# Altium footprint library KingBright LEDs.PcbLib: 4 footprints
Each footprint in its own frame and in the unit in brackets; x right, y up, seen from the top. Pads: shape width x height; smd on the part's side, far side on the other; paste and mask are expansions set on the pad; w line width, h text height; cw(c..) or ccw(c..) is an arc to the next point about the centre after c.
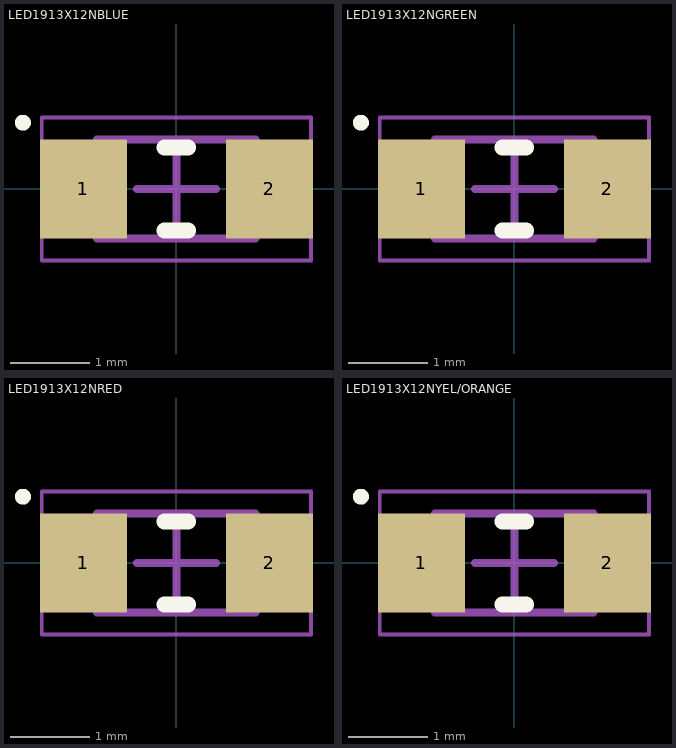
[diagram p0: the footprints below, top view; thin cyan lines are the x and y axes]

## LED1913X12NBLUE [mm] "LED 2-Leads, Body 1.90x1.32mm, IPC Medium Density"
height 1.2
pads (2):
  rect 1.1x1.25 smd: 1(-1.175,0) 2(1.175,0)
Top Overlay:
  circle w0.1: c-1.937,0.837 r0.05
  lines w0.2: -0.15,-0.525 0.15,-0.525 ; -0.15,0.525 0.15,0.525
Mechanical 13:
  lines w0.1: -1,-0.625 -1,0.625 1,0.625 1,-0.625 -1,-0.625
Mechanical 15:
  lines w0.05: -1.7,-0.9 -1.7,0.9 1.7,0.9 1.7,-0.9 -1.7,-0.9
  lines w0.1: -0.5,0 0.5,0 ; 0,-0.5 0,0.5
3D body "User Library-led_0805.step": height 1.1, standoff 0, extent -1.004,-0.625 1.016,0.625

## LED1913X12NGREEN [mm] "LED 2-Leads, Body 1.90x1.32mm, IPC Medium Density"
height 1.2
pads (2):
  rect 1.1x1.25 smd: 1(-1.175,0) 2(1.175,0)
Top Overlay:
  circle w0.1: c-1.937,0.837 r0.05
  lines w0.2: -0.15,-0.525 0.15,-0.525 ; -0.15,0.525 0.15,0.525
Mechanical 13:
  lines w0.1: -1,-0.625 -1,0.625 1,0.625 1,-0.625 -1,-0.625
Mechanical 15:
  lines w0.05: -1.7,-0.9 -1.7,0.9 1.7,0.9 1.7,-0.9 -1.7,-0.9
  lines w0.1: -0.5,0 0.5,0 ; 0,-0.5 0,0.5
3D body "User Library-User Library-led_0805 GRE.step": height 1.1, standoff 0, extent -1.01,-0.625 1.01,0.625

## LED1913X12NRED [mm] "LED 2-Leads, Body 1.90x1.32mm, IPC Medium Density"
height 1.2
pads (2):
  rect 1.1x1.25 smd: 1(-1.175,0) 2(1.175,0)
Top Overlay:
  circle w0.1: c-1.937,0.837 r0.05
  lines w0.2: -0.15,-0.525 0.15,-0.525 ; -0.15,0.525 0.15,0.525
Mechanical 13:
  lines w0.1: -1,-0.625 -1,0.625 1,0.625 1,-0.625 -1,-0.625
Mechanical 15:
  lines w0.05: -1.7,-0.9 -1.7,0.9 1.7,0.9 1.7,-0.9 -1.7,-0.9
  lines w0.1: -0.5,0 0.5,0 ; 0,-0.5 0,0.5
3D body "User Library-LED SMD0805.step": height 0.85, standoff 0.01, extent -1.021,-0.434 1.041,0.472

## LED1913X12NYEL/ORANGE [mm] "LED 2-Leads, Body 1.90x1.32mm, IPC Medium Density"
height 1.2
pads (2):
  rect 1.1x1.25 smd: 1(-1.175,0) 2(1.175,0)
Top Overlay:
  circle w0.1: c-1.937,0.837 r0.05
  lines w0.2: -0.15,-0.525 0.15,-0.525 ; -0.15,0.525 0.15,0.525
Mechanical 13:
  lines w0.1: -1,-0.625 -1,0.625 1,0.625 1,-0.625 -1,-0.625
Mechanical 15:
  lines w0.05: -1.7,-0.9 -1.7,0.9 1.7,0.9 1.7,-0.9 -1.7,-0.9
  lines w0.1: -0.5,0 0.5,0 ; 0,-0.5 0,0.5
3D body "User Library-User Library-led_0805 YEL.step": height 1.1, standoff 0, extent -1.01,-0.625 1.01,0.625